# EAGLE library part 555TIMER (library pie)
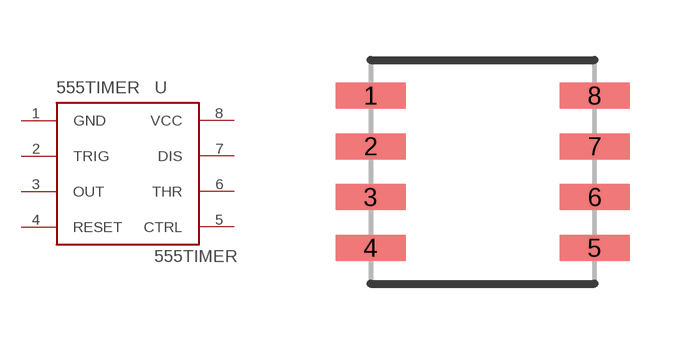
[diagram p31: symbol with the pads of 8-PIN_SOIC; footprint 8-PIN_SOIC]

Designator prefix -

## 555TIMER  [8-PIN_SOIC]
1  GND
2  TRIG
3  OUT
4  RESET
5  CTRL
6  THR
7  DIS
8  VCC

## Footprint 8-PIN_SOIC (pad centres in mm)
Generic SOIC package Drawings <http://glacier.lbl.gov/gtp/DOM/dataSheets/soic8_dim.pdf>
smd 1.75 x 0.65: 1 -2.8,1.905; 2 -2.8,0.635; 3 -2.8,-0.635; 4 -2.8,-1.905; 5 2.8,-1.905; 6 2.8,-0.635; 7 2.8,0.635; 8 2.8,1.905